# Altium footprint library PALib.PcbLib: 29 footprints (part 2 of 2)
Each footprint in its own frame and in the unit in brackets; x right, y up, seen from the top. Pads: shape width x height; smd on the part's side, far side on the other; paste and mask are expansions set on the pad; w line width, h text height; cw(c..) or ccw(c..) is an arc to the next point about the centre after c.
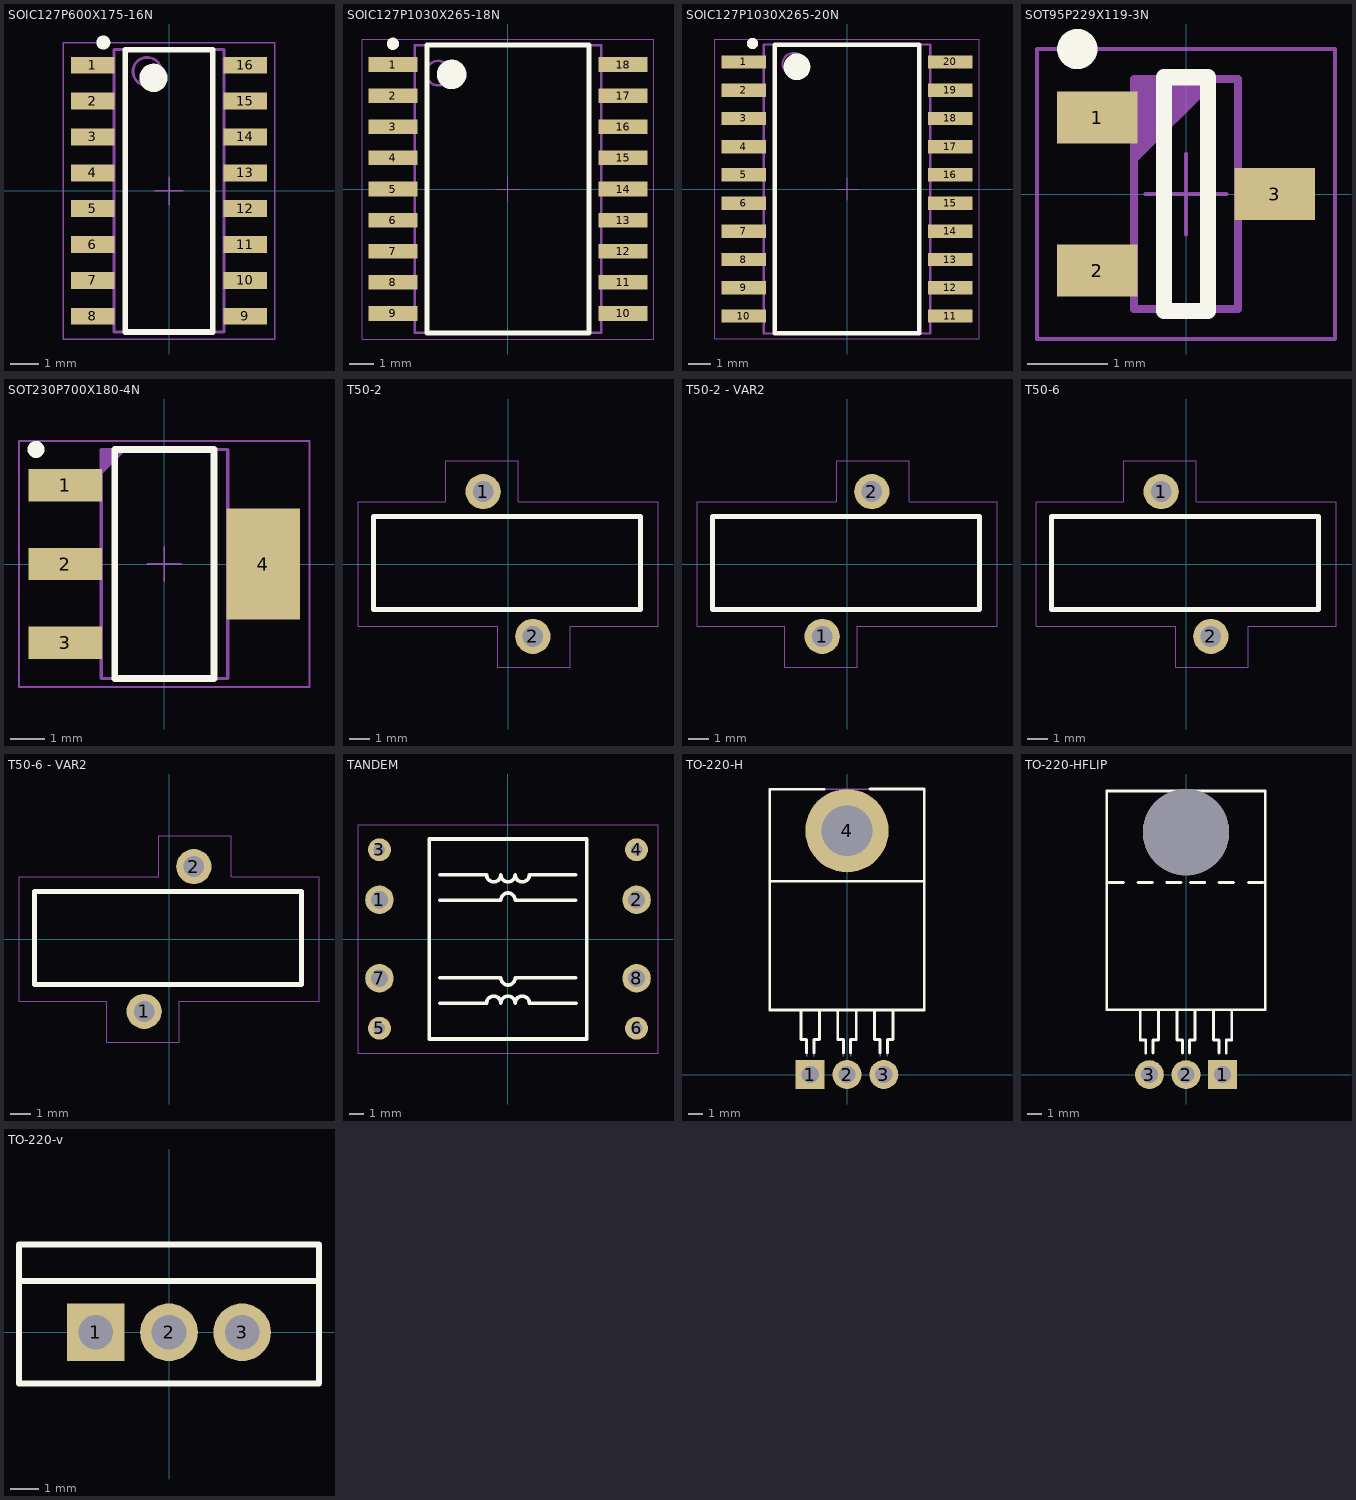
[diagram p1: the footprints below, top view; thin cyan lines are the x and y axes]

## SOIC127P600X175-16N [mm] "SOIC 16, Pitch 1.27mm - Body 4x10mm, IPC Medium Density"
height 1.75
pads (16):
  rect 1.55x0.6 smd: 1(-2.7,4.445) 2(-2.7,3.175) 3(-2.7,1.905) 4(-2.7,0.635) 5(-2.7,-0.635) 6(-2.7,-1.905) 7(-2.7,-3.175) 8(-2.7,-4.445) 9(2.7,-4.445) 10(2.7,-3.175) 11(2.7,-1.905) 12(2.7,-0.635) 13(2.7,0.635) 14(2.7,1.905) 15(2.7,3.175) 16(2.7,4.445)
Top Overlay:
  circle w0.25: c-2.325,5.25 r0.125
  circle w0.5: c-0.55,4 r0.25
  lines w0.2: -1.55,-5 -1.55,5 1.55,5 1.55,-5 -1.55,-5
Mechanical 14:
  circle w0.1: c-0.775,4.225 r0.5
  lines w0.1: -1.95,-5 1.95,-5 1.95,5 -1.95,5 -1.95,-5
Top Courtyard:
  lines w0.05: -0.5,0 0.5,0 ; 0,-0.5 0,0.5 ; -3.75,-5.25 -3.75,5.25 3.75,5.25 3.75,-5.25 -3.75,-5.25
3D body "SOIC127P600X175-16N.stp": height 1.75, standoff 0, extent -3.1,-5 3.1,5

## SOIC127P1030X265-18N [mm] "SOIC, 18-Leads, Body 13.9x7.6mm (max), Pitch 1.27mm, IPC Medium Density"
height 2.65
pads (18):
  rect 2x0.6 smd: 1(-4.7,5.08) 2(-4.7,3.81) 3(-4.7,2.54) 4(-4.7,1.27) 5(-4.7,0) 6(-4.7,-1.27) 7(-4.7,-2.54) 8(-4.7,-3.81) 9(-4.7,-5.08) 10(4.7,-5.08) 11(4.7,-3.81) 12(4.7,-2.54) 13(4.7,-1.27) 14(4.7,0) 15(4.7,1.27) 16(4.7,2.54) 17(4.7,3.81) 18(4.7,5.08)
Top Overlay:
  circle w0.25: c-4.7,5.93 r0.125
  circle w0.6: c-2.3,4.68 r0.3
  lines w0.2: -3.3,-5.875 -3.3,5.875 3.3,5.875 3.3,-5.875 -3.3,-5.875
Mechanical 14:
  circle w0.1: c-2.85,4.73 r0.5
  lines w0.1: -3.8,-5.875 -3.8,5.875 3.8,5.875 3.8,-5.875 -3.8,-5.875
Top Courtyard:
  lines w0.05: -0.5,0 0.5,0 ; 0,-0.5 0,0.5 ; -5.95,-6.125 -5.95,6.125 5.95,6.125 5.95,-6.125 -5.95,-6.125
3D body "SOIC127P1030X265-18N.stp": height 1.68, standoff 0, extent -5.18,-5.875 5.18,5.875

## SOIC127P1030X265-20N [mm] "SOIC 20, Pitch 1.27mm - Body 7.5x12.8mm, IPC Medium Density"
height 2.65
pads (20):
  rect 2x0.6 smd: 1(-4.65,5.715) 2(-4.65,4.445) 3(-4.65,3.175) 4(-4.65,1.905) 5(-4.65,0.635) 6(-4.65,-0.635) 7(-4.65,-1.905) 8(-4.65,-3.175) 9(-4.65,-4.445) 10(-4.65,-5.715) 11(4.65,-5.715) 12(4.65,-4.445) 13(4.65,-3.175) 14(4.65,-1.905) 15(4.65,-0.635) 16(4.65,0.635) 17(4.65,1.905) 18(4.65,3.175) 19(4.65,4.445) 20(4.65,5.715)
Top Overlay:
  circle w0.6: c-2.25,5.5 r0.3
  circle w0.25: c-4.25,6.55 r0.125
  lines w0.2: -3.25,-6.5 3.25,-6.5 3.25,6.5 -3.25,6.5 -3.25,-6.5
Mechanical 14:
  circle w0.1: c-2.4,5.625 r0.5
  lines w0.1: -3.75,-6.5 -3.75,6.5 3.75,6.5 3.75,-6.5 -3.75,-6.5
Top Courtyard:
  lines w0.05: -0.5,0 0.5,0 ; 0,-0.5 0,0.5 ; -5.95,-6.75 5.95,-6.75 5.95,6.75 -5.95,6.75 -5.95,-6.75
3D body "SOIC127P1030X265-20N.stp": height 1.68, standoff 0, extent -5.18,-6.5 5.18,6.5

## SOT95P229X119-3N [mm] "SOT23 3-Leads, 0.95mm pitch; 3 pin, 1.296mm W X 2.858mm L X 1.194mm H body, IPC Medium Density"
height 1.19
pads (3):
  rect 1x0.65 smd: 1(-1.1,0.95) 2(-1.1,-0.95) 3(1.1,0)
Top Overlay:
  circle w0.25: c-1.35,1.8 r0.125
  lines w0.2: -0.275,-1.45 0.275,-1.45 0.275,1.45 -0.275,1.45 -0.275,-1.45
Mechanical 14:
  lines w0.1: -0.648,0.429 0.352,1.429 ; -0.648,0.529 0.252,1.429 ; -0.648,0.629 0.152,1.429 ; -0.648,0.729 0.052,1.429 ; -0.648,0.829 -0.048,1.429 ; -0.648,0.929 -0.148,1.429 ; -0.648,1.029 -0.248,1.429 ; -0.648,1.129 -0.348,1.429 ; -0.648,1.229 -0.448,1.429 ; -0.648,1.329 -0.548,1.429 ; -0.648,-1.429 -0.648,1.429 0.648,1.429 0.648,-1.429 -0.648,-1.429
Top Courtyard:
  lines w0.05: -0.5,0 0.5,0 ; 0,-0.5 0,0.5 ; -1.85,-1.8 -1.85,1.8 1.85,1.8 1.85,-1.8 -1.85,-1.8
3D body "SOT95P229X119-3N.stp": height 1.19, standoff 0, extent -1.25,-1.5 1.25,1.5

## SOT230P700X180-4N [mm] "SOT223, 2.30mm pitch; 3 pin, 3.70mm W X 6.70mm L, IPC Medium Density"
height 1.8
pads (4):
  rect 2.15x0.95 smd: 1(-2.9,2.3) 2(-2.9,0) 3(-2.9,-2.3)
  rect 2.15x3.25 smd: 4(2.9,0)
Top Overlay:
  circle w0.25: c-3.75,3.35 r0.125
  lines w0.2: -1.45,-3.35 1.45,-3.35 1.45,3.35 -1.45,3.35 -1.45,-3.35
Mechanical 14:
  lines w0.1: -1.85,2.675 -1.175,3.35 ; -1.85,2.75 -1.25,3.35 ; -1.85,2.85 -1.35,3.35 ; -1.85,2.95 -1.45,3.35 ; -1.85,3.05 -1.55,3.35 ; -1.85,3.15 -1.65,3.35 ; -1.85,3.25 -1.75,3.35 ; -1.85,-3.35 1.85,-3.35 1.85,3.35 -1.85,3.35 -1.85,-3.35
Top Courtyard:
  lines w0.05: -0.5,0 0.5,0 ; 0,-0.5 0,0.5 ; -4.25,-3.6 4.25,-3.6 4.25,3.6 -4.25,3.6 -4.25,-3.6
3D body "SOT230P700X180-4N.stp": height 1.81, standoff 0, extent -3.649,-3.35 3.649,3.35

## T50-2 [mm]
pads (2):
  round 1.7 hole 1: 1(-1.2,3.5) 2(1.2,-3.5)
Top Overlay:
  lines w0.254: -6.5,-2.2 6.4,-2.2 6.4,2.3 -6.5,2.3 -6.5,-2.2
Top Courtyard:
  lines w0.05: -7.25,-3 -0.5,-3 -0.5,-5 3,-5 3,-3 7.25,-3 7.25,3 0.5,3 0.5,5 -3,5 -3,3 -7.25,3 -7.25,-3
3D body "T50-2.STEP": height 13.08, standoff 0.08, extent -6.5,-2.3 6.5,2.3

## T50-2 - VAR2 [mm]
pads (2):
  round 1.7 hole 1: 1(-1.2,-3.5) 2(1.2,3.5)
Top Overlay:
  lines w0.254: -6.5,-2.2 6.4,-2.2 6.4,2.3 -6.5,2.3 -6.5,-2.2
Top Courtyard:
  lines w0.05: -7.25,-3 -7.25,3 -0.5,3 -0.5,5 3,5 3,3 7.25,3 7.25,-3 0.5,-3 0.5,-5 -3,-5 -3,-3 -7.25,-3
3D body "T50-2.STEP": height 13.08, standoff 0.08, extent -6.5,-2.3 6.5,2.3

## T50-6 [mm]
pads (2):
  round 1.7 hole 1: 1(-1.2,3.5) 2(1.2,-3.5)
Top Overlay:
  lines w0.254: -6.5,-2.2 6.4,-2.2 6.4,2.3 -6.5,2.3 -6.5,-2.2
Top Courtyard:
  lines w0.05: -7.25,-3 -0.5,-3 -0.5,-5 3,-5 3,-3 7.25,-3 7.25,3 0.5,3 0.5,5 -3,5 -3,3 -7.25,3 -7.25,-3
3D body "T50-6.STEP": height 13.08, standoff 0.08, extent -6.5,-2.3 6.5,2.3

## T50-6 - VAR2 [mm]
pads (2):
  round 1.7 hole 1: 1(-1.2,-3.5) 2(1.2,3.5)
Top Overlay:
  lines w0.254: -6.5,-2.2 -6.5,2.3 6.4,2.3 6.4,-2.2 -6.5,-2.2
Top Courtyard:
  lines w0.05: -7.25,-3 -7.25,3 -0.5,3 -0.5,5 3,5 3,3 7.25,3 7.25,-3 0.5,-3 0.5,-5 -3,-5 -3,-3 -7.25,-3
3D body "T50-6.STEP": height 13.08, standoff 0.08, extent -6.5,-2.3 6.5,2.3

## TANDEM [mm]
pads (8):
  round 2 hole 1.2: 1(-9,2.75) 2(9,2.75) 7(-9,-2.75) 8(9,-2.75)
  round 1.6 hole 0.8: 3(-9,6.25) 4(9,6.25) 5(-9,-6.25) 6(9,-6.25)
Top Overlay:
  lines w0.254: -4.775,-4.5 -1.525,-4.5 ; -4.775,-2.725 -0.525,-2.725 ; -4.775,2.725 -0.525,2.725 ; -4.775,4.5 -1.5,4.5 ccw(c-1,4.5) -0.5,4.5 ccw(c0,4.5) 0.5,4.5 ccw(c1,4.5) 1.5,4.5 4.75,4.5 ; -1.5,-4.5 cw(c-1,-4.5) -0.5,-4.5 cw(c0,-4.5) 0.5,-4.5 cw(c1,-4.5) 1.5,-4.5 4.775,-4.5 ; -0.5,-2.725 ccw(c0,-2.725) 0.5,-2.725 4.75,-2.725 ; -0.5,2.725 cw(c0,2.725) 0.5,2.725 4.75,2.725 ; -5.5,-7 5.5,-7 5.5,7 -5.5,7 -5.5,-7
Top Courtyard:
  lines w0.05: -10.5,-8 10.5,-8 10.5,8 -10.5,8 -10.5,-8
3D body "BN-43-302.STEP": height 7.55, standoff 0.05, extent -5.125,-6.625 5.125,6.575

## TO-220-H [mm] "TO-220 3-Terminal + Tab - Horizontal Mount"
height 4.7
pads (4):
  rect 2x2 hole 1.2: 1(-2.54,0)
  round 2 hole 1.2: 2(0,0) 3(2.54,0)
  round 5.75 hole 3.5: 4(0,16.828)
Top Overlay:
  lines w0.2: -5.334,13.335 5.334,13.335 ; -3.175,4.445 -3.175,2.413 -2.794,2.413 -2.794,1.5 ; -2.286,1.5 -2.286,2.413 -1.905,2.413 -1.905,4.445 ; -1.6,19.685 -5.334,19.685 -5.334,4.445 5.334,4.445 5.334,19.685 5.319,19.7 1.6,19.7 ; -0.635,4.445 -0.635,2.413 -0.254,2.413 -0.254,1.5 ; 0.254,1.5 0.254,2.413 0.635,2.413 0.635,4.445 ; 1.905,4.445 1.905,2.413 2.286,2.413 2.286,1.5 ; 2.794,1.5 2.794,2.413 3.175,2.413 3.175,4.445
Mechanical 14:
  circle w0.1: c0,16.828 r2
  lines w0.1: -5.334,13.335 5.334,13.335 ; -3.175,4.445 -3.175,2.413 -2.794,2.413 -2.794,1.27 ; -2.286,1.27 -2.286,2.413 -1.905,2.413 -1.905,4.445 ; -0.635,4.445 -0.635,2.413 -0.254,2.413 -0.254,1.27 ; 0.254,1.27 0.254,2.413 0.635,2.413 0.635,4.445 ; 1.905,4.445 1.905,2.413 2.286,2.413 2.286,1.27 ; 2.794,1.27 2.794,2.413 3.175,2.413 3.175,4.445 ; -5.334,4.445 -5.334,19.685 5.334,19.685 5.334,4.445 -5.334,4.445
3D body "TO-220-H.stp": height 4.7, standoff -3.5, extent -5.27,-0.28 5.27,19.49

## TO-220-HFLIP [mm] "TO-220 3-Terminal + Tab - Flipped Horizontal Mount"
height 4.7
pads (4):
  rect 2x2 hole 1.2: 1(2.54,0)
  round 2 hole 1.2: 2(0,0) 3(-2.54,0)
  round 6 hole 6: ""(0,16.828)
Top Overlay:
  lines w0.2: -5.334,13.335 -4.334,13.335 ; -3.334,13.335 -2.334,13.335 ; -3.175,4.445 -3.175,2.413 -2.794,2.413 -2.794,1.5 ; -2.286,1.5 -2.286,2.413 -1.905,2.413 -1.905,4.445 ; -1.334,13.335 -0.334,13.335 ; -0.635,4.445 -0.635,2.413 -0.254,2.413 -0.254,1.5 ; 0.254,1.5 0.254,2.413 0.635,2.413 0.635,4.445 ; 0.3,13.335 1.3,13.335 ; 1.905,4.445 1.905,2.413 2.286,2.413 2.286,1.5 ; 2.3,13.335 3.3,13.335 ; 2.794,1.5 2.794,2.413 3.175,2.413 3.175,4.445 ; 4.334,13.335 5.334,13.335 ; -5.5,4.5 5.5,4.5 5.5,19.685 -5.5,19.685 -5.5,4.5
3D body "TO-220-HFLIP.stp": height 4.7, standoff -4.7, extent -5.27,-0.28 5.27,19.49

## TO-220-v [mm] "TO-220 3-Terminal - Vertical Mount"
height 22.86
pads (3):
  rect 2x2 hole 1.2: 1(-2.54,0)
  round 2 hole 1.2: 2(0,0) 3(2.54,0)
Top Overlay:
  lines w0.2: -5.207,1.778 5.207,1.778 ; -5.207,-1.778 -5.207,3.048 5.207,3.048 5.207,-1.778 -5.207,-1.778
Mechanical 14:
  lines w0.1: -5.207,1.778 5.207,1.778 ; -5.207,-1.778 -5.207,3.048 5.207,3.048 5.207,-1.778 -5.207,-1.778
3D body "TO-220-V.stp": height 20.5, standoff -3.5, extent -5.27,-1.75 5.27,2.95